# Altium schematic symbol library Schlib_Gowin_Semiconductor.SchLib: 4 symbols
Pins are listed as number, name and electrical type; pins without a type are passive.

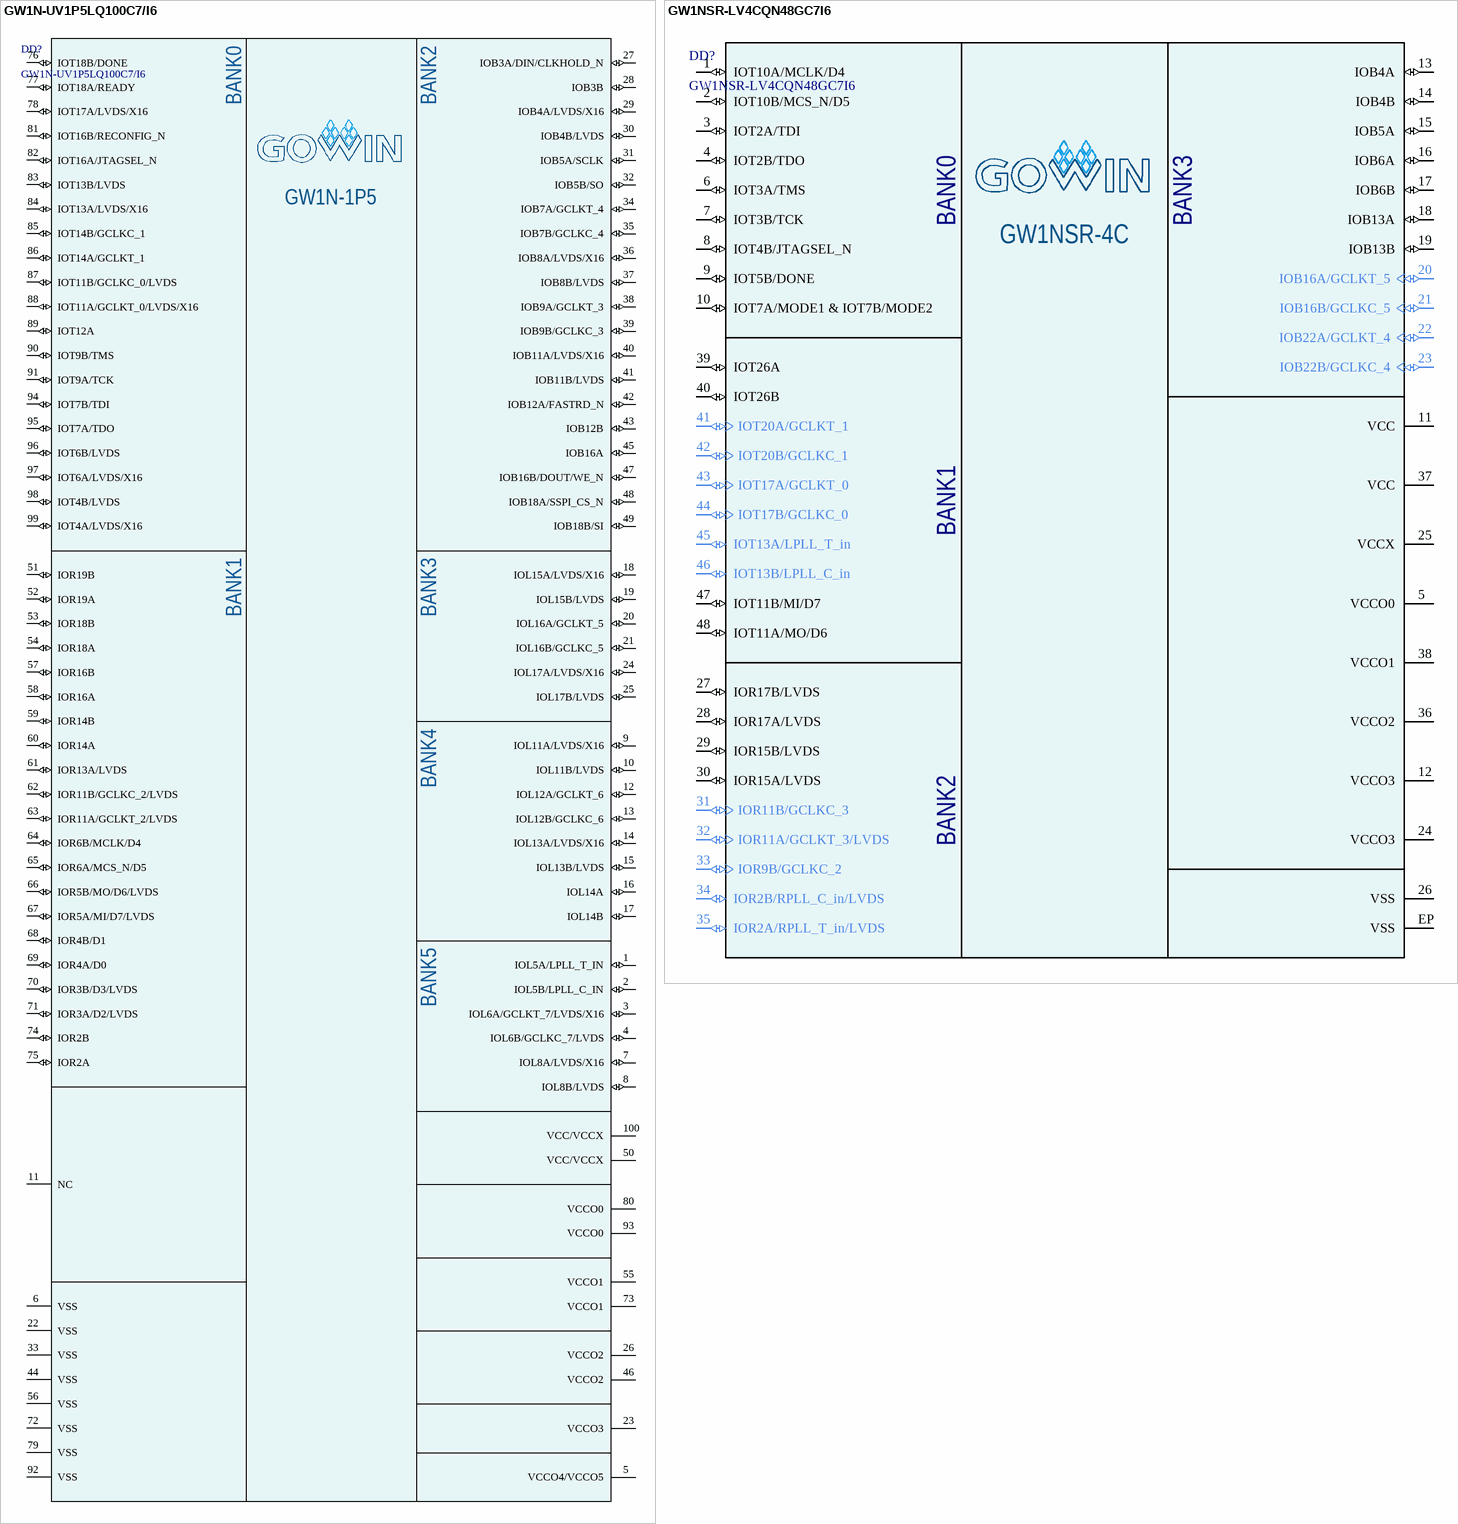
[diagram p0: symbols GW1N-UV1P5LQ100C7/I6 to GW1NSR-LV4CQN48GC7I6]

## GW1N-UV1P5LQ100C7/I6
designator DD?
LittleBee FPGA, 1584 LUT, 1584 FFT, SRAM 72KBit, User Flash 96KBit, 80 I/O (16 Diff. Pairs); Manufacturer: Gowin Semiconductor; Part Number: GW1N-UV1P5LQ100C7/I6; Package: LQ100
footprint LQ100 (TSQFP, 128-Leads, Body 14.00x14.00mm, Pitch 0.40mm, IPC Medium Density)
pins: 1 IOL5A/LPLL_T_IN (io), 2 IOL5B/LPLL_C_IN (io), 3 IOL6A/GCLKT_7/LVDS/X16 (io), 4 IOL6B/GCLKC_7/LVDS (io), 5 VCCO4/VCCO5 (power), 6 VSS (power), 7 IOL8A/LVDS/X16 (io), 8 IOL8B/LVDS (io), 9 IOL11A/LVDS/X16 (io), 10 IOL11B/LVDS (io), 11 NC (hiz), 12 IOL12A/GCLKT_6 (io), 13 IOL12B/GCLKC_6 (io), 14 IOL13A/LVDS/X16 (io), 15 IOL13B/LVDS (io), 16 IOL14A (io), 17 IOL14B (io), 18 IOL15A/LVDS/X16 (io), 19 IOL15B/LVDS (io), 20 IOL16A/GCLKT_5 (io), 21 IOL16B/GCLKC_5 (io), 22 VSS (power), 23 VCCO3 (power), 24 IOL17A/LVDS/X16 (io), 25 IOL17B/LVDS (io), 26 VCCO2 (power), 27 IOB3A/DIN/CLKHOLD_N (io), 28 IOB3B (io), 29 IOB4A/LVDS/X16 (io), 30 IOB4B/LVDS (io), 31 IOB5A/SCLK (io), 32 IOB5B/SO (io), 33 VSS (power), 34 IOB7A/GCLKT_4 (io), 35 IOB7B/GCLKC_4 (io), 36 IOB8A/LVDS/X16 (io), 37 IOB8B/LVDS (io), 38 IOB9A/GCLKT_3 (io), 39 IOB9B/GCLKC_3 (io), 40 IOB11A/LVDS/X16 (io), 41 IOB11B/LVDS (io), 42 IOB12A/FASTRD_N (io), 43 IOB12B (io), 44 VSS (power), 45 IOB16A (io), 46 VCCO2 (power), 47 IOB16B/DOUT/WE_N (io), 48 IOB18A/SSPI_CS_N (io), 49 IOB18B/SI (io), 50 VCC/VCCX (power), 51 IOR19B (io), 52 IOR19A (io), 53 IOR18B (io), 54 IOR18A (io), 55 VCCO1 (power), 56 VSS (power), 57 IOR16B (io), 58 IOR16A (io), 59 IOR14B (io), 60 IOR14A (io), 61 IOR13A/LVDS (io), 62 IOR11B/GCLKC_2/LVDS (io), 63 IOR11A/GCLKT_2/LVDS (io), 64 IOR6B/MCLK/D4 (io), 65 IOR6A/MCS_N/D5 (io), 66 IOR5B/MO/D6/LVDS (io), 67 IOR5A/MI/D7/LVDS (io), 68 IOR4B/D1 (io), 69 IOR4A/D0 (io), 70 IOR3B/D3/LVDS (io), 71 IOR3A/D2/LVDS (io), 72 VSS (power), 73 VCCO1 (power), 74 IOR2B (io), 75 IOR2A (io), 76 IOT18B/DONE (io), 77 IOT18A/READY (io), 78 IOT17A/LVDS/X16 (io), 79 VSS (power), 80 VCCO0 (power), 81 IOT16B/RECONFIG_N (io), 82 IOT16A/JTAGSEL_N (io), 83 IOT13B/LVDS (io), 84 IOT13A/LVDS/X16 (io), 85 IOT14B/GCLKC_1 (io), 86 IOT14A/GCLKT_1 (io), 87 IOT11B/GCLKC_0/LVDS (io), 88 IOT11A/GCLKT_0/LVDS/X16 (io), 89 IOT12A (io), 90 IOT9B/TMS (io), 91 IOT9A/TCK (io), 92 VSS (power), 93 VCCO0 (power), 94 IOT7B/TDI (io), 95 IOT7A/TDO (io), 96 IOT6B/LVDS (io), 97 IOT6A/LVDS/X16 (io), 98 IOT4B/LVDS (io), 99 IOT4A/LVDS/X16 (io), 100 VCC/VCCX (power)
text: BANK0; BANK2; GW1N-1P5; BANK1; BANK3; BANK4; BANK5

## GW1NSR-LV4CQN48GC7I6
designator DD?
LittleBee FPGA with Cortex-M3 Hard Core, 4608 LUT, 3456 FFT, SRAM 180KBit, PSRAM 64MBit, User Flash 256KBit, 44 I/O; Manufacturer: Gowin Semiconductor; Part Number: GW1NSR-LV4CQN48GC7I6; Package: QN48G
footprint QN48P_QN48G (QFN48 package 6x6 mm with 0.4mm pitch)
pins: 1 IOT10A/MCLK/D4 (io), 2 IOT10B/MCS_N/D5 (io), 3 IOT2A/TDI (io), 4 IOT2B/TDO (io), 5 VCCO0 (power), 6 IOT3A/TMS (io), 7 IOT3B/TCK (io), 8 IOT4B/JTAGSEL_N (io), 9 IOT5B/DONE (io), 10 IOT7A/MODE1 & IOT7B/MODE2 (io), 11 VCC (power), 12 VCCO3 (power), 13 IOB4A (io), 14 IOB4B (io), 15 IOB5A (io), 16 IOB6A (io), 17 IOB6B (io), 18 IOB13A (io), 19 IOB13B (io), 20 IOB16A/GCLKT_5 (io), 21 IOB16B/GCLKC_5 (io), 22 IOB22A/GCLKT_4 (io), 23 IOB22B/GCLKC_4 (io), 24 VCCO3 (power), 25 VCCX (power), 26 VSS (power), 27 IOR17B/LVDS (io), 28 IOR17A/LVDS (io), 29 IOR15B/LVDS (io), 30 IOR15A/LVDS (io), 31 IOR11B/GCLKC_3 (io), 32 IOR11A/GCLKT_3/LVDS (io), 33 IOR9B/GCLKC_2 (io), 34 IOR2B/RPLL_C_in/LVDS (io), 35 IOR2A/RPLL_T_in/LVDS (io), 36 VCCO2 (power), 37 VCC (power), 38 VCCO1 (power), 39 IOT26A (io), 40 IOT26B (io), 41 IOT20A/GCLKT_1 (io), 42 IOT20B/GCLKC_1 (io), 43 IOT17A/GCLKT_0 (io), 44 IOT17B/GCLKC_0 (io), 45 IOT13A/LPLL_T_in (io), 46 IOT13B/LPLL_C_in (io), 47 IOT11B/MI/D7 (io), 48 IOT11A/MO/D6 (io), EP VSS (power)
text: BANK0; BANK3; GW1NSR-4C; BANK1; BANK2

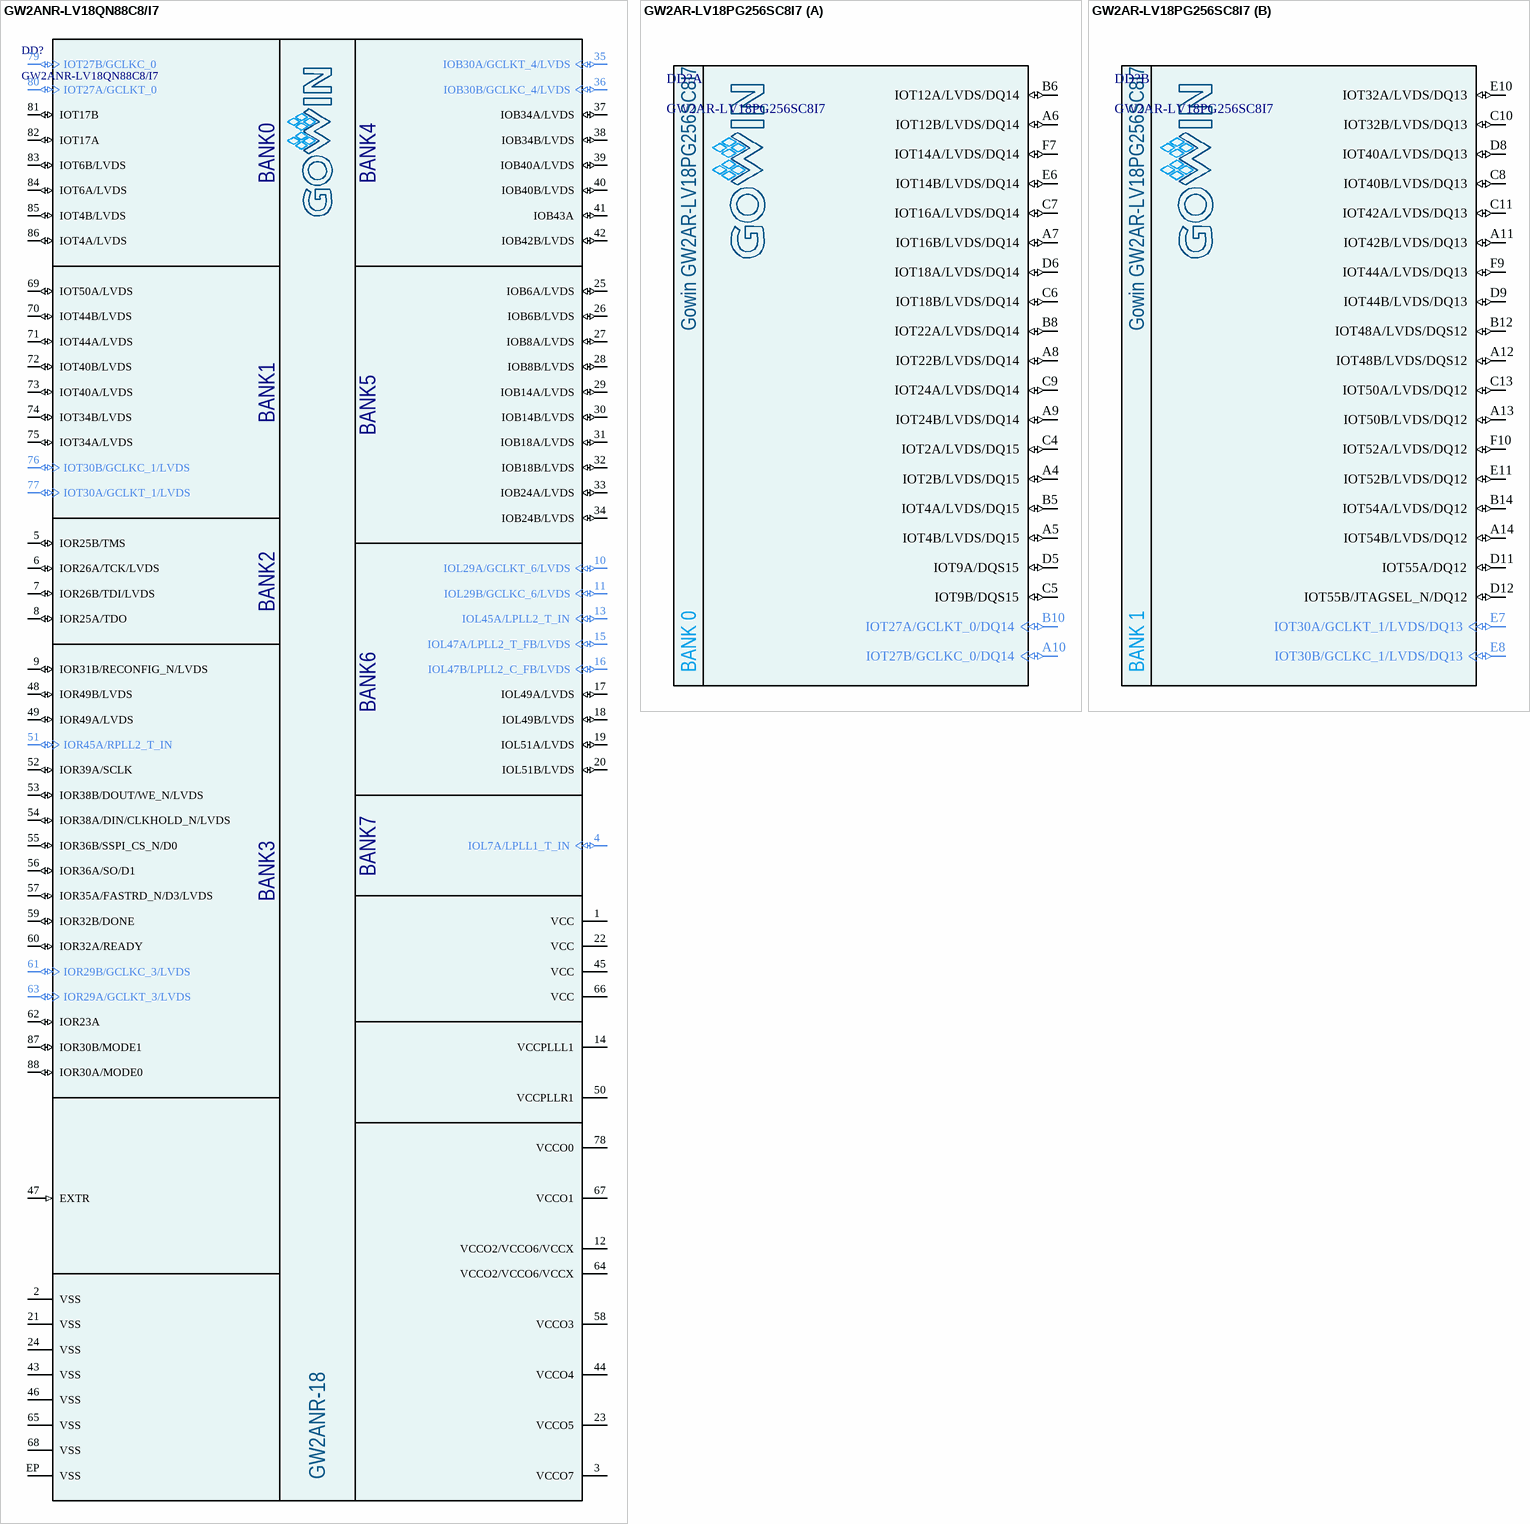
[diagram p1: symbols GW2ANR-LV18QN88C8/I7 to GW2AR-LV18PG256SC8I7]

## GW2ANR-LV18QN88C8/I7
designator DD?
Arora FPGA, 20736 LUT, 15552 FFT, SRAM 828KBit, NOR FLASH 32MBit, SDRAM 64MBit, 65 I/O; Manufacturer: Gowin Semiconductor; Part Number: GW2ANR-LV18QN88C8/I7; Package: QN88
footprint QN88 (QFN, 88-Leads, Body 10.00x10.00mm, Pitch 0.40mm, Thermal Pad 7x7mm, IPC Medium Density)
pins: 1 VCC (power), 2 VSS (power), 3 VCCO7 (power), 4 IOL7A/LPLL1_T_IN (io), 5 IOR25B/TMS (io), 6 IOR26A/TCK/LVDS (io), 7 IOR26B/TDI/LVDS (io), 8 IOR25A/TDO (io), 9 IOR31B/RECONFIG_N/LVDS (io), 10 IOL29A/GCLKT_6/LVDS (io), 11 IOL29B/GCLKC_6/LVDS (io), 12 VCCO2/VCCO6/VCCX (power), 13 IOL45A/LPLL2_T_IN (io), 14 VCCPLLL1 (power), 15 IOL47A/LPLL2_T_FB/LVDS (io), 16 IOL47B/LPLL2_C_FB/LVDS (io), 17 IOL49A/LVDS (io), 18 IOL49B/LVDS (io), 19 IOL51A/LVDS (io), 20 IOL51B/LVDS (io), 21 VSS (power), 22 VCC (power), 23 VCCO5 (power), 24 VSS (power), 25 IOB6A/LVDS (io), 26 IOB6B/LVDS (io), 27 IOB8A/LVDS (io), 28 IOB8B/LVDS (io), 29 IOB14A/LVDS (io), 30 IOB14B/LVDS (io), 31 IOB18A/LVDS (io), 32 IOB18B/LVDS (io), 33 IOB24A/LVDS (io), 34 IOB24B/LVDS (io), 35 IOB30A/GCLKT_4/LVDS (io), 36 IOB30B/GCLKC_4/LVDS (io), 37 IOB34A/LVDS (io), 38 IOB34B/LVDS (io), 39 IOB40A/LVDS (io), 40 IOB40B/LVDS (io), 41 IOB43A (io), 42 IOB42B/LVDS (io), 43 VSS (power), 44 VCCO4 (power), 45 VCC (power), 46 VSS (power), 47 EXTR (in), 48 IOR49B/LVDS (io), 49 IOR49A/LVDS (io), 50 VCCPLLR1 (power), 51 IOR45A/RPLL2_T_IN (io), 52 IOR39A/SCLK (io), 53 IOR38B/DOUT/WE_N/LVDS (io), 54 IOR38A/DIN/CLKHOLD_N/LVDS (io), 55 IOR36B/SSPI_CS_N/D0 (io), 56 IOR36A/SO/D1 (io), 57 IOR35A/FASTRD_N/D3/LVDS (io), 58 VCCO3 (power), 59 IOR32B/DONE (io), 60 IOR32A/READY (io), 61 IOR29B/GCLKC_3/LVDS (io), 62 IOR23A (io), 63 IOR29A/GCLKT_3/LVDS (io), 64 VCCO2/VCCO6/VCCX (power), 65 VSS (power), 66 VCC (power), 67 VCCO1 (power), 68 VSS (power), 69 IOT50A/LVDS (io), 70 IOT44B/LVDS (io), 71 IOT44A/LVDS (io), 72 IOT40B/LVDS (io), 73 IOT40A/LVDS (io), 74 IOT34B/LVDS (io), 75 IOT34A/LVDS (io), 76 IOT30B/GCLKC_1/LVDS (io), 77 IOT30A/GCLKT_1/LVDS (io), 78 VCCO0 (power), 79 IOT27B/GCLKC_0 (io), 80 IOT27A/GCLKT_0 (io), 81 IOT17B (io), 82 IOT17A (io), 83 IOT6B/LVDS (io), 84 IOT6A/LVDS (io), 85 IOT4B/LVDS (io), 86 IOT4A/LVDS (io), 87 IOR30B/MODE1 (io), 88 IOR30A/MODE0 (io), EP VSS (power)
text: BANK0; BANK4; BANK1; BANK5; BANK2; BANK6; BANK7; BANK3; GW2ANR-18

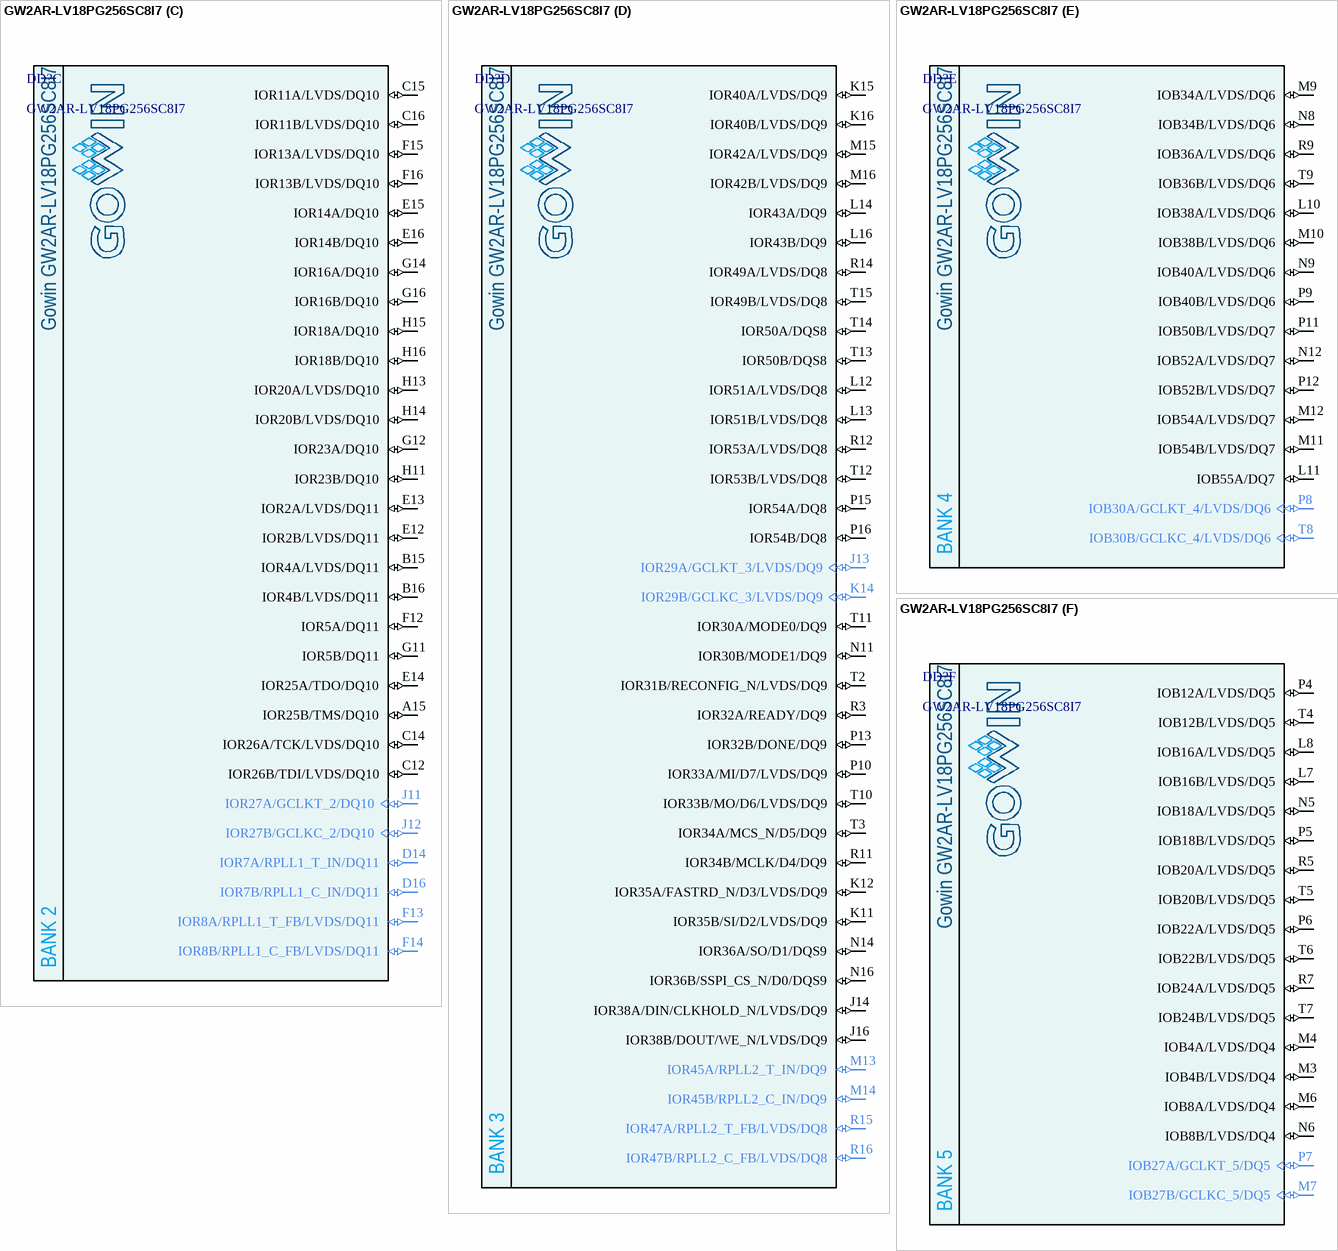
[diagram p2: symbol GW2AR-LV18PG256SC8I7]

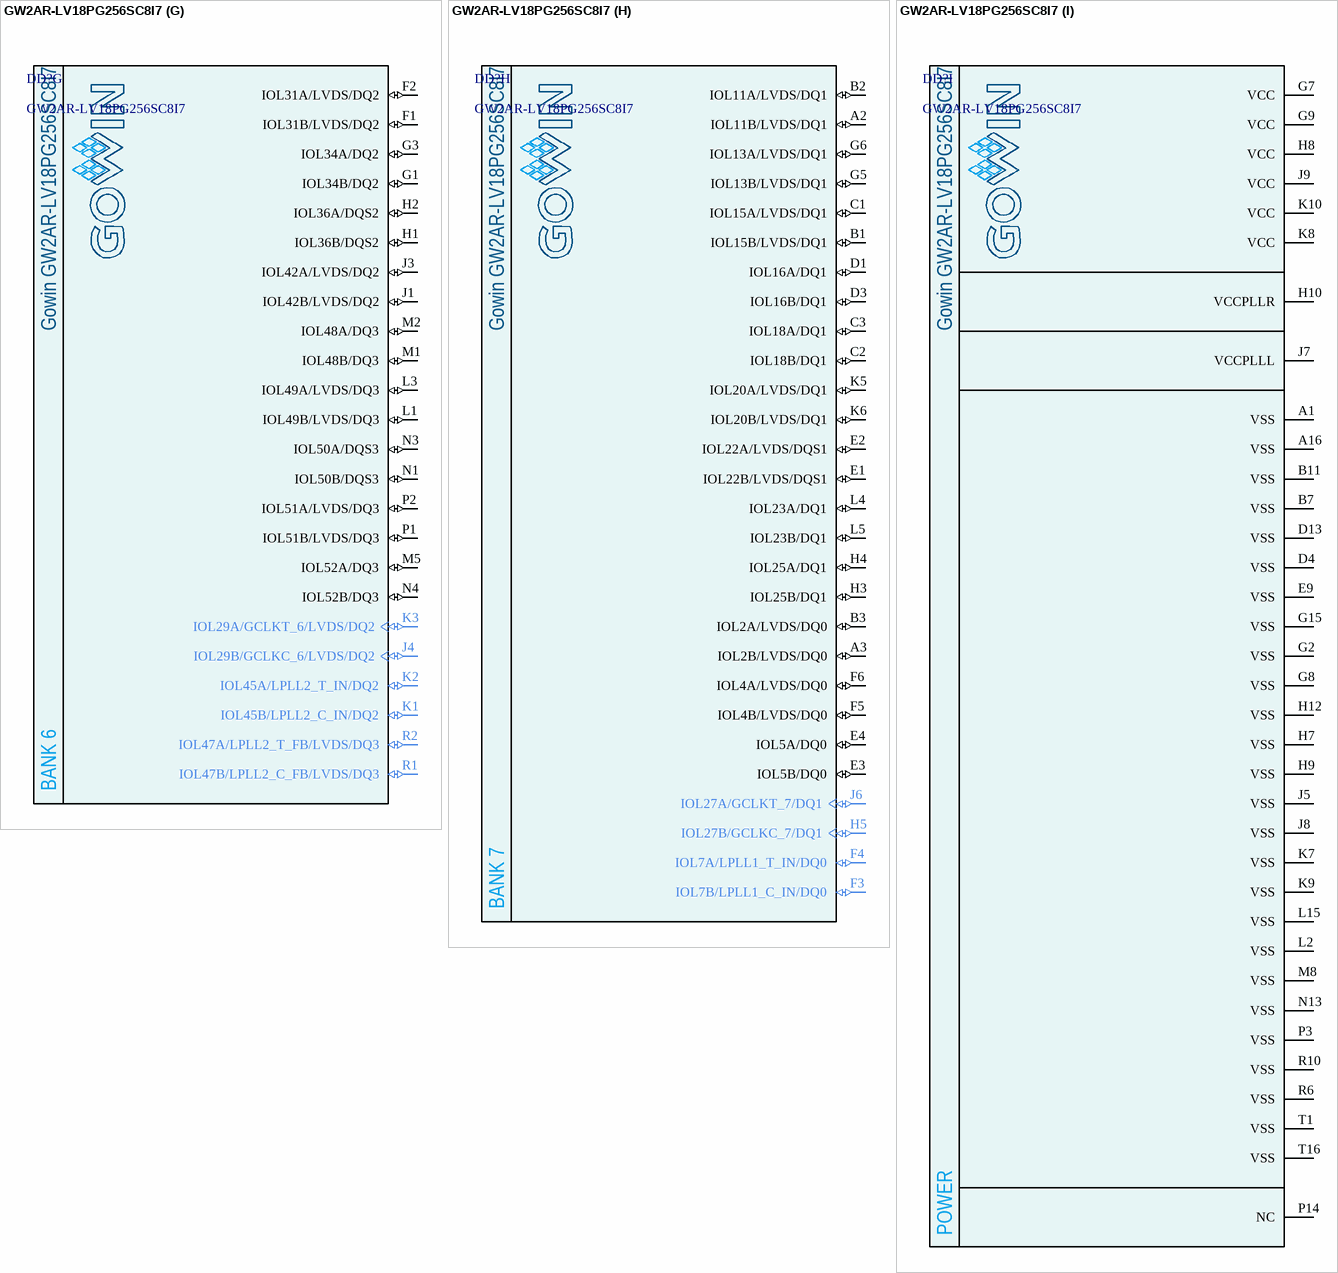
[diagram p3: symbol GW2AR-LV18PG256SC8I7]

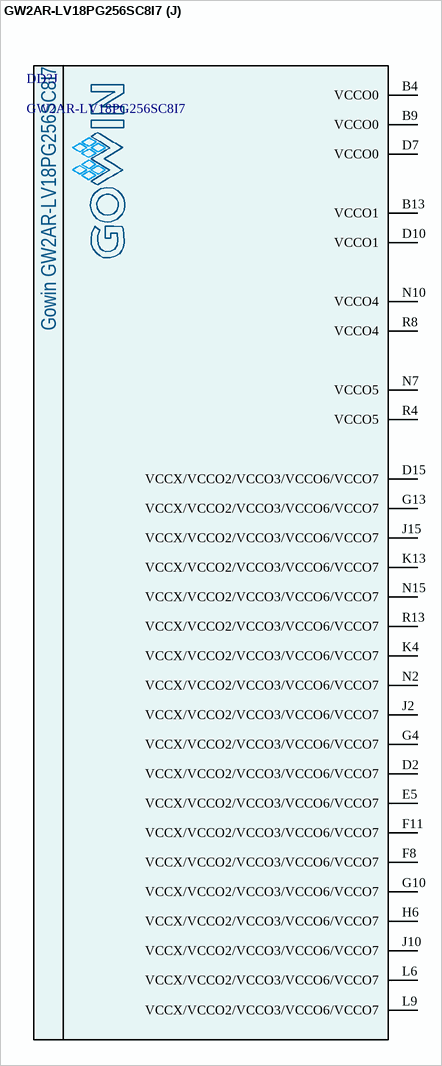
[diagram p4: symbol GW2AR-LV18PG256SC8I7]

## GW2AR-LV18PG256SC8I7
designator DD?
Arora family FPGA, 192 User I/Os,20736 LUT4, 15552 FFT, 828KBit SRAM, 64MBit PSRAM, 256-Ball BGA; Manufacturer: Gowin Semiconductor; Part Number: GW2AR-LV18PG256SC8I7; Package: PG256S
footprint PG256S (BGA, 256-Leads, Body 17,00x17,00mmx1,22mm, Pitch 1,00mm)
part A pins: A4 IOT2B/LVDS/DQ15 (io), A5 IOT4B/LVDS/DQ15 (io), A6 IOT12B/LVDS/DQ14 (io), A7 IOT16B/LVDS/DQ14 (io), A8 IOT22B/LVDS/DQ14 (io), A9 IOT24B/LVDS/DQ14 (io), A10 IOT27B/GCLKC_0/DQ14 (io), B5 IOT4A/LVDS/DQ15 (io), B6 IOT12A/LVDS/DQ14 (io), B8 IOT22A/LVDS/DQ14 (io), B10 IOT27A/GCLKT_0/DQ14 (io), C4 IOT2A/LVDS/DQ15 (io), C5 IOT9B/DQS15 (io), C6 IOT18B/LVDS/DQ14 (io), C7 IOT16A/LVDS/DQ14 (io), C9 IOT24A/LVDS/DQ14 (io), D5 IOT9A/DQS15 (io), D6 IOT18A/LVDS/DQ14 (io), E6 IOT14B/LVDS/DQ14 (io), F7 IOT14A/LVDS/DQ14 (io)
part B pins: A11 IOT42B/LVDS/DQ13 (io), A12 IOT48B/LVDS/DQS12 (io), A13 IOT50B/LVDS/DQ12 (io), A14 IOT54B/LVDS/DQ12 (io), B12 IOT48A/LVDS/DQS12 (io), B14 IOT54A/LVDS/DQ12 (io), C8 IOT40B/LVDS/DQ13 (io), C10 IOT32B/LVDS/DQ13 (io), C11 IOT42A/LVDS/DQ13 (io), C13 IOT50A/LVDS/DQ12 (io), D8 IOT40A/LVDS/DQ13 (io), D9 IOT44B/LVDS/DQ13 (io), D11 IOT55A/DQ12 (io), D12 IOT55B/JTAGSEL_N/DQ12 (io), E7 IOT30A/GCLKT_1/LVDS/DQ13 (io), E8 IOT30B/GCLKC_1/LVDS/DQ13 (io), E10 IOT32A/LVDS/DQ13 (io), E11 IOT52B/LVDS/DQ12 (io), F9 IOT44A/LVDS/DQ13 (io), F10 IOT52A/LVDS/DQ12 (io)
part C pins: A15 IOR25B/TMS/DQ10 (io), B15 IOR4A/LVDS/DQ11 (io), B16 IOR4B/LVDS/DQ11 (io), C12 IOR26B/TDI/LVDS/DQ10 (io), C14 IOR26A/TCK/LVDS/DQ10 (io), C15 IOR11A/LVDS/DQ10 (io), C16 IOR11B/LVDS/DQ10 (io), D14 IOR7A/RPLL1_T_IN/DQ11 (io), D16 IOR7B/RPLL1_C_IN/DQ11 (io), E12 IOR2B/LVDS/DQ11 (io), E13 IOR2A/LVDS/DQ11 (io), E14 IOR25A/TDO/DQ10 (io), E15 IOR14A/DQ10 (io), E16 IOR14B/DQ10 (io), F12 IOR5A/DQ11 (io), F13 IOR8A/RPLL1_T_FB/LVDS/DQ11 (io), F14 IOR8B/RPLL1_C_FB/LVDS/DQ11 (io), F15 IOR13A/LVDS/DQ10 (io), F16 IOR13B/LVDS/DQ10 (io), G11 IOR5B/DQ11 (io), G12 IOR23A/DQ10 (io), G14 IOR16A/DQ10 (io), G16 IOR16B/DQ10 (io), H11 IOR23B/DQ10 (io), H13 IOR20A/LVDS/DQ10 (io), H14 IOR20B/LVDS/DQ10 (io), H15 IOR18A/DQ10 (io), H16 IOR18B/DQ10 (io), J11 IOR27A/GCLKT_2/DQ10 (io), J12 IOR27B/GCLKC_2/DQ10 (io)
part D pins: J13 IOR29A/GCLKT_3/LVDS/DQ9 (io), J14 IOR38A/DIN/CLKHOLD_N/LVDS/DQ9 (io), J16 IOR38B/DOUT/WE_N/LVDS/DQ9 (io), K11 IOR35B/SI/D2/LVDS/DQ9 (io), K12 IOR35A/FASTRD_N/D3/LVDS/DQ9 (io), K14 IOR29B/GCLKC_3/LVDS/DQ9 (io), K15 IOR40A/LVDS/DQ9 (io), K16 IOR40B/LVDS/DQ9 (io), L12 IOR51A/LVDS/DQ8 (io), L13 IOR51B/LVDS/DQ8 (io), L14 IOR43A/DQ9 (io), L16 IOR43B/DQ9 (io), M13 IOR45A/RPLL2_T_IN/DQ9 (io), M14 IOR45B/RPLL2_C_IN/DQ9 (io), M15 IOR42A/LVDS/DQ9 (io), M16 IOR42B/LVDS/DQ9 (io), N11 IOR30B/MODE1/DQ9 (io), N14 IOR36A/SO/D1/DQS9 (io), N16 IOR36B/SSPI_CS_N/D0/DQS9 (io), P10 IOR33A/MI/D7/LVDS/DQ9 (io), P13 IOR32B/DONE/DQ9 (io), P15 IOR54A/DQ8 (io), P16 IOR54B/DQ8 (io), R3 IOR32A/READY/DQ9 (io), R11 IOR34B/MCLK/D4/DQ9 (io), R12 IOR53A/LVDS/DQ8 (io), R14 IOR49A/LVDS/DQ8 (io), R15 IOR47A/RPLL2_T_FB/LVDS/DQ8 (io), R16 IOR47B/RPLL2_C_FB/LVDS/DQ8 (io), T2 IOR31B/RECONFIG_N/LVDS/DQ9 (io), T3 IOR34A/MCS_N/D5/DQ9 (io), T10 IOR33B/MO/D6/LVDS/DQ9 (io), T11 IOR30A/MODE0/DQ9 (io), T12 IOR53B/LVDS/DQ8 (io), T13 IOR50B/DQS8 (io), T14 IOR50A/DQS8 (io), T15 IOR49B/LVDS/DQ8 (io)
part E pins: L10 IOB38A/LVDS/DQ6 (io), L11 IOB55A/DQ7 (io), M9 IOB34A/LVDS/DQ6 (io), M10 IOB38B/LVDS/DQ6 (io), M11 IOB54B/LVDS/DQ7 (io), M12 IOB54A/LVDS/DQ7 (io), N8 IOB34B/LVDS/DQ6 (io), N9 IOB40A/LVDS/DQ6 (io), N12 IOB52A/LVDS/DQ7 (io), P8 IOB30A/GCLKT_4/LVDS/DQ6 (io), P9 IOB40B/LVDS/DQ6 (io), P11 IOB50B/LVDS/DQ7 (io), P12 IOB52B/LVDS/DQ7 (io), R9 IOB36A/LVDS/DQ6 (io), T8 IOB30B/GCLKC_4/LVDS/DQ6 (io), T9 IOB36B/LVDS/DQ6 (io)
part F pins: L7 IOB16B/LVDS/DQ5 (io), L8 IOB16A/LVDS/DQ5 (io), M3 IOB4B/LVDS/DQ4 (io), M4 IOB4A/LVDS/DQ4 (io), M6 IOB8A/LVDS/DQ4 (io), M7 IOB27B/GCLKC_5/DQ5 (io), N5 IOB18A/LVDS/DQ5 (io), N6 IOB8B/LVDS/DQ4 (io), P4 IOB12A/LVDS/DQ5 (io), P5 IOB18B/LVDS/DQ5 (io), P6 IOB22A/LVDS/DQ5 (io), P7 IOB27A/GCLKT_5/DQ5 (io), R5 IOB20A/LVDS/DQ5 (io), R7 IOB24A/LVDS/DQ5 (io), T4 IOB12B/LVDS/DQ5 (io), T5 IOB20B/LVDS/DQ5 (io), T6 IOB22B/LVDS/DQ5 (io), T7 IOB24B/LVDS/DQ5 (io)
part G pins: F1 IOL31B/LVDS/DQ2 (io), F2 IOL31A/LVDS/DQ2 (io), G1 IOL34B/DQ2 (io), G3 IOL34A/DQ2 (io), H1 IOL36B/DQS2 (io), H2 IOL36A/DQS2 (io), J1 IOL42B/LVDS/DQ2 (io), J3 IOL42A/LVDS/DQ2 (io), J4 IOL29B/GCLKC_6/LVDS/DQ2 (io), K1 IOL45B/LPLL2_C_IN/DQ2 (io), K2 IOL45A/LPLL2_T_IN/DQ2 (io), K3 IOL29A/GCLKT_6/LVDS/DQ2 (io), L1 IOL49B/LVDS/DQ3 (io), L3 IOL49A/LVDS/DQ3 (io), M1 IOL48B/DQ3 (io), M2 IOL48A/DQ3 (io), M5 IOL52A/DQ3 (io), N1 IOL50B/DQS3 (io), N3 IOL50A/DQS3 (io), N4 IOL52B/DQ3 (io), P1 IOL51B/LVDS/DQ3 (io), P2 IOL51A/LVDS/DQ3 (io), R1 IOL47B/LPLL2_C_FB/LVDS/DQ3 (io), R2 IOL47A/LPLL2_T_FB/LVDS/DQ3 (io)
part H pins: A2 IOL11B/LVDS/DQ1 (io), A3 IOL2B/LVDS/DQ0 (io), B1 IOL15B/LVDS/DQ1 (io), B2 IOL11A/LVDS/DQ1 (io), B3 IOL2A/LVDS/DQ0 (io), C1 IOL15A/LVDS/DQ1 (io), C2 IOL18B/DQ1 (io), C3 IOL18A/DQ1 (io), D1 IOL16A/DQ1 (io), D3 IOL16B/DQ1 (io), E1 IOL22B/LVDS/DQS1 (io), E2 IOL22A/LVDS/DQS1 (io), E3 IOL5B/DQ0 (io), E4 IOL5A/DQ0 (io), F3 IOL7B/LPLL1_C_IN/DQ0 (io), F4 IOL7A/LPLL1_T_IN/DQ0 (io), F5 IOL4B/LVDS/DQ0 (io), F6 IOL4A/LVDS/DQ0 (io), G5 IOL13B/LVDS/DQ1 (io), G6 IOL13A/LVDS/DQ1 (io), H3 IOL25B/DQ1 (io), H4 IOL25A/DQ1 (io), H5 IOL27B/GCLKC_7/DQ1 (io), J6 IOL27A/GCLKT_7/DQ1 (io), K5 IOL20A/LVDS/DQ1 (io), K6 IOL20B/LVDS/DQ1 (io), L4 IOL23A/DQ1 (io), L5 IOL23B/DQ1 (io)
part I pins: A1 VSS (power), A16 VSS (power), B7 VSS (power), B11 VSS (power), D4 VSS (power), D13 VSS (power), E9 VSS (power), G2 VSS (power), G7 VCC (power), G8 VSS (power), G9 VCC (power), G15 VSS (power), H7 VSS (power), H8 VCC (power), H9 VSS (power), H10 VCCPLLR (power), H12 VSS (power), J5 VSS (power), J7 VCCPLLL (power), J8 VSS (power), J9 VCC (power), K7 VSS (power), K8 VCC (power), K9 VSS (power), K10 VCC (power), L2 VSS (power), L15 VSS (power), M8 VSS (power), N13 VSS (power), P3 VSS (power), P14 NC (hiz), R6 VSS (power), R10 VSS (power), T1 VSS (power), T16 VSS (power)
part J pins: B4 VCCO0 (power), B9 VCCO0 (power), B13 VCCO1 (power), D2 VCCX/VCCO2/VCCO3/VCCO6/VCCO7 (power), D7 VCCO0 (power), D10 VCCO1 (power), D15 VCCX/VCCO2/VCCO3/VCCO6/VCCO7 (power), E5 VCCX/VCCO2/VCCO3/VCCO6/VCCO7 (power), F8 VCCX/VCCO2/VCCO3/VCCO6/VCCO7 (power), F11 VCCX/VCCO2/VCCO3/VCCO6/VCCO7 (power), G4 VCCX/VCCO2/VCCO3/VCCO6/VCCO7 (power), G10 VCCX/VCCO2/VCCO3/VCCO6/VCCO7 (power), G13 VCCX/VCCO2/VCCO3/VCCO6/VCCO7 (power), H6 VCCX/VCCO2/VCCO3/VCCO6/VCCO7 (power), J2 VCCX/VCCO2/VCCO3/VCCO6/VCCO7 (power), J10 VCCX/VCCO2/VCCO3/VCCO6/VCCO7 (power), J15 VCCX/VCCO2/VCCO3/VCCO6/VCCO7 (power), K4 VCCX/VCCO2/VCCO3/VCCO6/VCCO7 (power), K13 VCCX/VCCO2/VCCO3/VCCO6/VCCO7 (power), L6 VCCX/VCCO2/VCCO3/VCCO6/VCCO7 (power), L9 VCCX/VCCO2/VCCO3/VCCO6/VCCO7 (power), N2 VCCX/VCCO2/VCCO3/VCCO6/VCCO7 (power), N7 VCCO5 (power), N10 VCCO4 (power), N15 VCCX/VCCO2/VCCO3/VCCO6/VCCO7 (power), R4 VCCO5 (power), R8 VCCO4 (power), R13 VCCX/VCCO2/VCCO3/VCCO6/VCCO7 (power)
part A text: Gowin GW2AR-LV18PG256SC8I7; BANK 0
part B text: Gowin GW2AR-LV18PG256SC8I7; BANK 1
part C text: Gowin GW2AR-LV18PG256SC8I7; BANK 2
part D text: Gowin GW2AR-LV18PG256SC8I7; BANK 3
part E text: Gowin GW2AR-LV18PG256SC8I7; BANK 4
part F text: Gowin GW2AR-LV18PG256SC8I7; BANK 5
part G text: Gowin GW2AR-LV18PG256SC8I7; BANK 6
part H text: Gowin GW2AR-LV18PG256SC8I7; BANK 7
part I text: Gowin GW2AR-LV18PG256SC8I7; POWER
part J text: Gowin GW2AR-LV18PG256SC8I7